# EAGLE library part LTC1044ACS8PBF (library LTC1044ACS8PBF)
Switched Capacitor Voltage Regulator
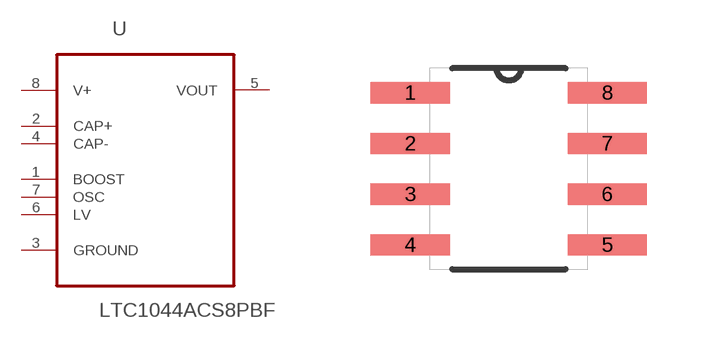
[diagram p0: symbol with the pads of SOIC127P600X175-8N; footprint SOIC127P600X175-8N]

Designator prefix U

## LTC1044ACS8PBF (Description: Charge Pump Inv/Step-Up/Dn 20mA SOIC8; Digi-Key_Part_Number: LTC1044ACS8#PBF-ND; Digi-Key_Purchase_URL: https://www.digikey.com/product-detail/en/linear-technology-analog-devices/LTC1044ACS8-PBF/LTC1044ACS8-PBF-ND/962759?utm_source=snapeda&utm_medium=aggregator&utm_campaign=symbol; MF: Linear Technology/Analog; MP: LTC1044ACS8#PBF; Package: SO-8 Linear Technology)  [SOIC127P600X175-8N]
1  BOOST  pwr
2  CAP+  pas
3  GROUND  pas
4  CAP-  pas
5  VOUT  out
6  LV  pas
7  OSC  in
8  V+  pwr

## Footprint SOIC127P600X175-8N (pad centres in mm)
smd 1.981 x 0.533: 1 -2.464,1.905; 2 -2.464,0.635; 3 -2.464,-0.635; 4 -2.464,-1.905; 5 2.464,-1.905; 6 2.464,-0.635; 7 2.464,0.635; 8 2.464,1.905